# Altium footprint library YAYAT-LIB.PcbLib: 42 footprints (part 1 of 3)
Each footprint in its own frame and in the unit in brackets; x right, y up, seen from the top. Pads: shape width x height; smd on the part's side, far side on the other; paste and mask are expansions set on the pad; w line width, h text height; cw(c..) or ccw(c..) is an arc to the next point about the centre after c.
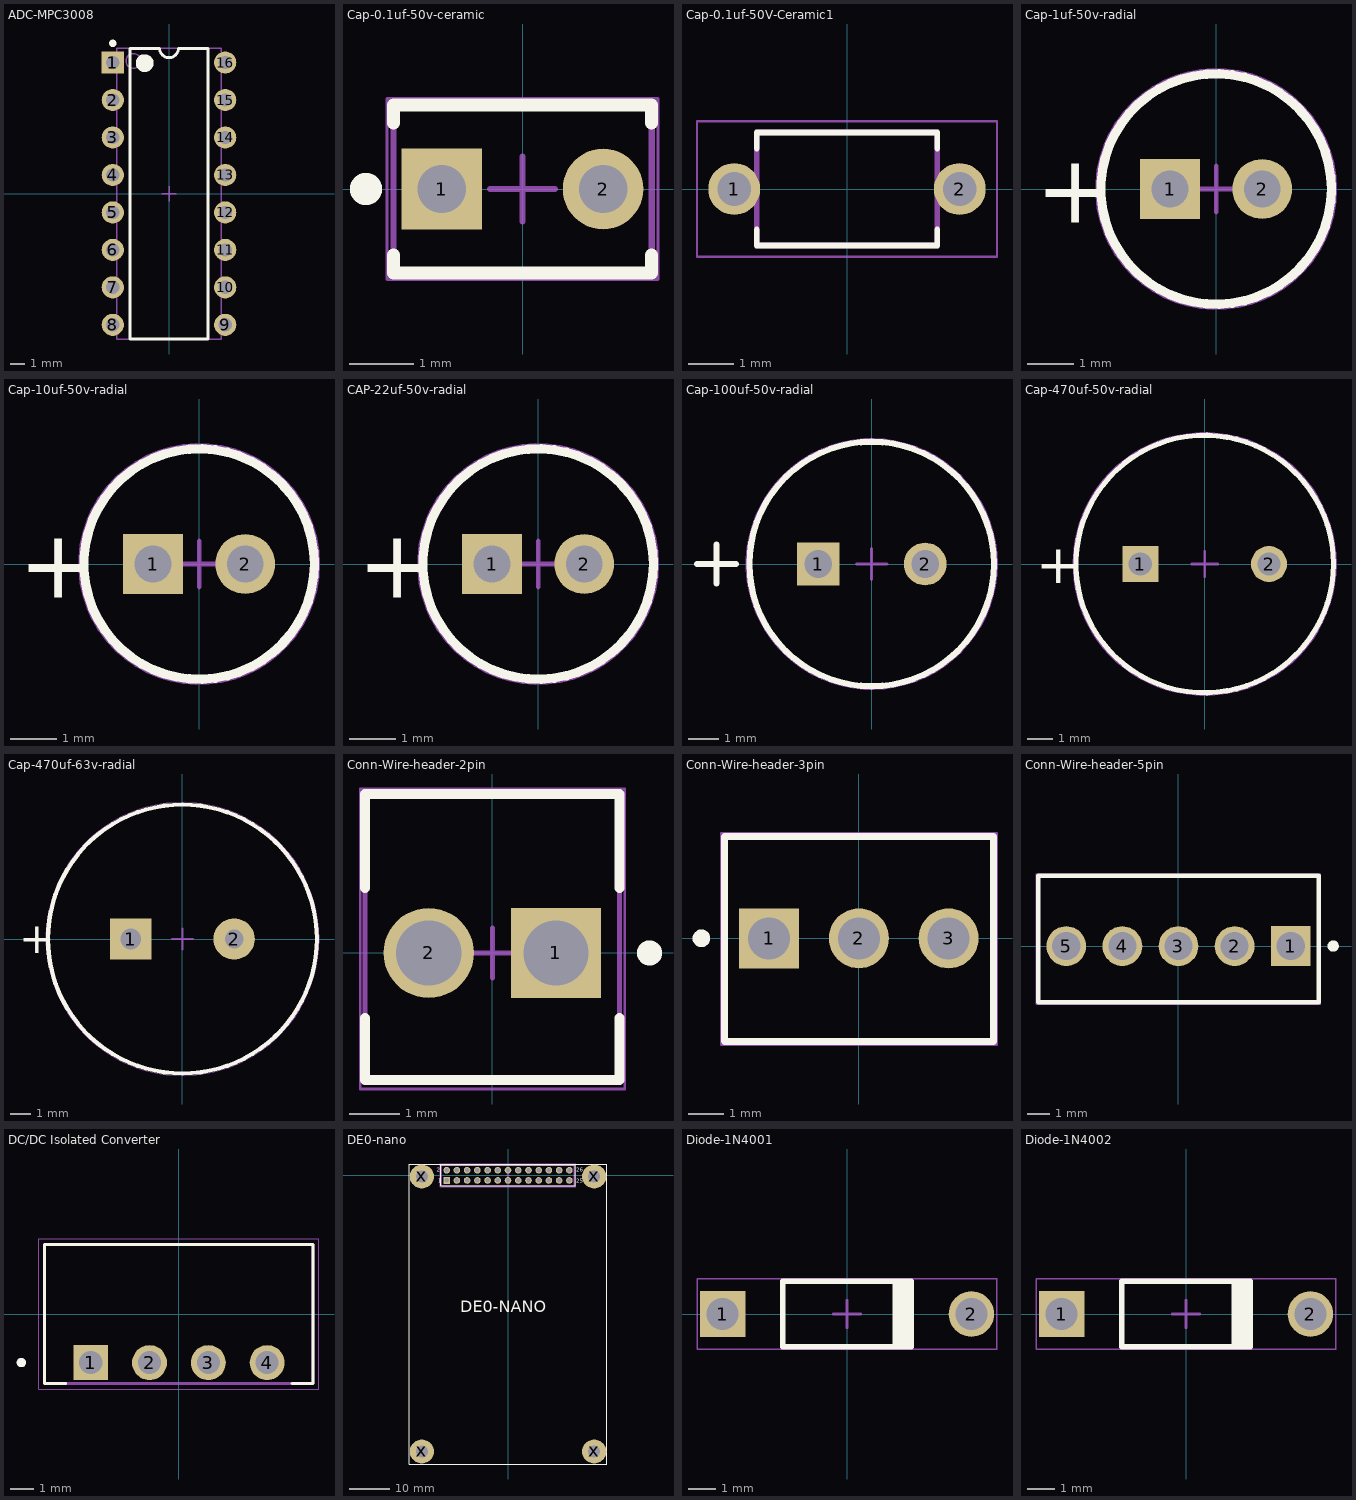
[diagram p0: the footprints below, top view; thin cyan lines are the x and y axes]

## ADC-MPC3008 [mm] "DIP, 16-Leads, Row Spacing 7.62mm, Pitch 2.54mm, Body 19.2x6.6mm"
height 5.34
pads (16):
  rect 1.5x1.5 hole 0.9: 1(-3.81,8.89)
  round 1.5 hole 0.9: 2(-3.81,6.35) 3(-3.81,3.81) 4(-3.81,1.27) 5(-3.81,-1.27) 6(-3.81,-3.81) 7(-3.81,-6.35) 8(-3.81,-8.89) 9(3.81,-8.89) 10(3.81,-6.35) 11(3.81,-3.81) 12(3.81,-1.27) 13(3.81,1.27) 14(3.81,3.81) 15(3.81,6.35) 16(3.81,8.89)
Top Overlay:
  circle w0.25: c-3.81,10.19 r0.125
  circle w0.6: c-1.65,8.85 r0.3
  lines w0.2: -2.65,-9.85 -2.65,9.85 -0.635,9.85 ccw(c0,9.85) 0.635,9.85 2.65,9.85 2.65,-9.85 -2.65,-9.85
Mechanical 13:
  circle w0.1: c-2.4,9 r0.5
  lines w0.1: -3.55,-9.85 -3.55,9.85 3.55,9.85 3.55,-9.85 -3.55,-9.85
Mechanical 15:
  lines w0.1: -0.5,0 0.5,0 ; 0,-0.5 0,0.5
3D body: height 5.34, standoff 0.38, extent -3.549,-9.849 3.549,9.849

## Cap-0.1uf-50v-ceramic [mm] "THD, 2-Leads, Body 4x2.6mm"
height 5.6
pads (2):
  rect 1.25x1.25 hole 0.75: 1(-1.25,0)
  round 1.25 hole 0.75: 2(1.25,0)
Top Overlay:
  circle w0.25: c-2.425,0 r0.125
  lines w0.2: -2,-1.025 -2,-1.3 2,-1.3 2,-1.025 ; -2,1.025 -2,1.3 2,1.3 2,1.025
Mechanical 13:
  lines w0.1: -2,-1.3 2,-1.3 2,1.3 -2,1.3 -2,-1.3
Mechanical 15:
  lines w0.05: -2.1,-1.4 2.1,-1.4 2.1,1.4 -2.1,1.4 -2.1,-1.4
  lines w0.1: -0.5,0 0.5,0 ; 0,-0.5 0,0.5
3D body: height 5.6, standoff 0, extent -2,-1.3 2,1.3

## Cap-0.1uf-50V-Ceramic1 [mm]
pads (2):
  round 1.15 hole 0.75: 1(-2.5,0) 2(2.5,0)
Top Overlay:
  lines w0.127: -2,-0.9 -2,-1.25 2,-1.25 2,-0.9 ; -2,0.9 -2,1.25 2,1.25 2,0.9
Mechanical 13:
  lines w0.127: -2,-1.25 2,-1.25 2,1.25 -2,1.25 -2,-1.25
Mechanical 15:
  lines w0.05: -3.325,-1.5 3.325,-1.5 3.325,1.5 -3.325,1.5 -3.325,-1.5
3D body "RDER71H104K0K1H03B.STEP": height 6, standoff -22.5, extent -2.75,-1.357 2.75,1.143

## Cap-1uf-50v-radial [mm] "THD, 2-Leads, Dia 5mm, Body Length 11mm"
height 12
pads (2):
  rect 1.3x1.3 hole 0.8: 1(-1,0)
  round 1.3 hole 0.8: 2(1,0)
Top Overlay:
  circle w0.2: c0,0 r2.5
  text "+" at -3.908,-0.737 h1.5
Mechanical 13:
  circle w0.1: c0,0 r2.5
Mechanical 15:
  circle w0.05: c0,0 r2.6
  lines w0.1: -0.5,0 0.5,0 ; 0,-0.5 0,0.5
3D body: height 12, standoff 0, extent -2.499,-2.499 2.499,2.499

## Cap-10uf-50v-radial [mm] "THD, 2-Leads, Dia 5mm, Body Length 11mm"
height 12
pads (2):
  rect 1.3x1.3 hole 0.8: 1(-1,0)
  round 1.3 hole 0.8: 2(1,0)
Top Overlay:
  circle w0.2: c0,0 r2.5
  text "+" at -3.908,-0.737 h1.5
Mechanical 13:
  circle w0.1: c0,0 r2.5
Mechanical 15:
  circle w0.05: c0,0 r2.6
  lines w0.1: -0.5,0 0.5,0 ; 0,-0.5 0,0.5
3D body: height 12, standoff 0, extent -2.499,-2.499 2.499,2.499

## CAP-22uf-50v-radial [mm] "THD, 2-Leads, Dia 5mm, Body Length 11mm"
height 12
pads (2):
  rect 1.3x1.3 hole 0.8: 1(-1,0)
  round 1.3 hole 0.8: 2(1,0)
Top Overlay:
  circle w0.2: c0,0 r2.5
  text "+" at -3.908,-0.737 h1.5
Mechanical 13:
  circle w0.1: c0,0 r2.5
Mechanical 15:
  circle w0.05: c0,0 r2.6
  lines w0.1: -0.5,0 0.5,0 ; 0,-0.5 0,0.5
3D body: height 12, standoff 0, extent -2.499,-2.499 2.499,2.499

## Cap-100uf-50v-radial [mm] "THD, 2-Leads, Dia 8mm, Body 11.5mm"
height 12.5
pads (2):
  rect 1.4x1.4 hole 0.9: 1(-1.75,0)
  round 1.4 hole 0.9: 2(1.75,0)
Top Overlay:
  circle w0.2: c0,0 r4
  lines w0.2: -5.715,0 -4.445,0 ; -5.08,-0.635 -5.08,0.635
Mechanical 13:
  circle w0.1: c0,0 r4
Mechanical 15:
  circle w0.05: c0,0 r4.1
  lines w0.1: -0.5,0 0.5,0 ; 0,-0.5 0,0.5
3D body: height 12.5, standoff 0, extent -3.999,-3.999 3.999,3.999

## Cap-470uf-50v-radial [mm] "THD, 2-Leads, Dia 10mm, Body Length 20mm"
height 22
pads (2):
  rect 1.4x1.4 hole 0.9: 1(-2.5,0)
  round 1.4 hole 0.9: 2(2.5,0)
Top Overlay:
  circle w0.2: c0,0 r5
  text "+" at -6.55,-0.75 h1.5
Mechanical 13:
  circle w0.1: c0,0 r5
Mechanical 15:
  circle w0.05: c0,0 r5.1
  lines w0.1: -0.5,0 0.5,0 ; 0,-0.5 0,0.5
3D body: height 22, standoff 0, extent -4.999,-4.999 4.999,4.999

## Cap-470uf-63v-radial [mm] "THD, 2-Leads, Dia 10mm, Body Length 20mm"
height 22
pads (2):
  rect 2x2 hole 1: 1(-2.5,0)
  round 2 hole 0.9: 2(2.5,0)
Top Overlay:
  circle w0.2: c0,0 r6.5
  text "+" at -7.9,-0.7 h1.5
Mechanical 13:
  circle w0.1: c0,0 r6.501
Mechanical 15:
  circle w0.05: c0,0 r6.6
  lines w0.1: -0.5,0 0.5,0 ; 0,-0.5 0,0.5
3D body: height 22, standoff 0, extent -6.556,-6.424 6.524,6.592

## Conn-Wire-header-2pin [mm] "HDR, 2-Leads, Body 5.715x5.08mm, Pitch 2.54mm"
height 10.49
pads (2):
  rect 1.8x1.8 hole 1.3: 1(1.27,0)
  round 1.8 hole 1.3: 2(-1.27,0)
Top Overlay:
  circle w0.25: c3.14,0 r0.125
  lines w0.2: -2.54,-1.3 -2.54,-2.54 2.54,-2.54 2.54,-1.3 ; -2.54,1.3 -2.54,3.175 2.54,3.175 2.54,1.3
Mechanical 13:
  lines w0.1: -2.54,-2.54 -2.54,3.175 2.54,3.175 2.54,-2.54 -2.54,-2.54
Mechanical 15:
  lines w0.05: -2.64,-2.717 2.64,-2.717 2.64,3.275 -2.64,3.275 -2.64,-2.717
  lines w0.1: -0.5,0 0.5,0 ; 0,-0.5 0,0.5
3D body "c-640456-2-aa-3d.stp": height 9.4, standoff -4.19, extent -2.54,-2.667 2.54,3.175

## Conn-Wire-header-3pin [mm] "Header, 3-Leads, Body 7.62x5.8mm, Pitch 2.54mm"
height 11.7
pads (3):
  rect 1.7x1.7 hole 1.19 paste+0: 1(-2.54,0)
  round 1.7 hole 1.19 paste+0: 2(0,0) 3(2.54,0)
Top Overlay:
  circle w0.25: c-4.46,0 r0.125
  lines w0.2: -3.81,-2.92 3.81,-2.92 3.81,2.88 -3.81,2.88 -3.81,-2.92
Mechanical 13:
  lines w0.1: -3.81,-2.92 -3.81,2.88 3.81,2.88 3.81,-2.92 -3.81,-2.92
Mechanical 15:
  lines w0.05: -3.91,-3.02 -3.91,2.98 3.91,2.98 3.91,-3.02 -3.91,-3.02
  lines w0.1: -0.5,0 0.5,0 ; 0,-0.5 0,0.5
3D body "022272031.stp": height 11.71, standoff -3.55, extent -3.81,-2.92 3.81,2.88

## Conn-Wire-header-5pin [mm] "Through Hole, 5-Leads, Body 12.7x5.72mm, Pitch 2.54mm"
height 10.03
pads (5):
  rect 1.8x1.8 hole 1.27 paste+0: 1(5.08,0)
  round 1.8 hole 1.27 paste+0: 2(2.54,0) 3(0,0) 4(-2.54,0) 5(-5.08,0)
Top Overlay:
  circle w0.25: c7.002,0 r0.127
  lines w0.2: -6.35,-2.54 -6.35,3.18 6.35,3.18 6.35,-2.54 -6.35,-2.54
Mechanical 13:
  lines w0.1: -6.35,-2.54 6.35,-2.54 6.35,3.18 -6.35,3.18 -6.35,-2.54
Mechanical 15:
  lines w0.05: -6.45,-2.64 -6.45,3.28 6.45,3.28 6.45,-2.64 -6.45,-2.64
  lines w0.1: -0.5,0 0.5,0 ; 0,-0.5 0,0.5
3D body "c-640456-5-aa-3d.stp": height 10.29, standoff -3.3, extent -6.35,-2.667 6.35,3.175

## DC/DC Isolated Converter [mm]
pads (4):
  rect 1.508x1.508 hole 1: 1(-3.81,-2.1)
  round 1.508 hole 1: 2(-1.27,-2.1) 3(1.27,-2.1) 4(3.81,-2.1)
Top Overlay:
  circle w0.2: c-6.81,-2.1 r0.1
  lines w0.127: -4.89,-3 -5.8,-3 -5.8,3 5.8,3 5.8,-3 4.89,-3
Mechanical 13:
  circle w0.2: c-6.81,-2.1 r0.1
  lines w0.127: -5.8,-3 -5.8,3 5.8,3 5.8,-3 -5.8,-3
Mechanical 15:
  lines w0.05: -6.05,-3.25 -6.05,3.25 6.05,3.25 6.05,-3.25 -6.05,-3.25
3D body "PDSE1-S24-S15-S--3DModel-STEP-194946.STEP": height 9.67, standoff -4.59, extent -5.8,-3.013 5.8,2.987

## DE0-nano [mm] "Pin Header, pitch 2.54 mm, THT, Vertical, dual row, 26p"
height 8.54
pads (30):
  rect 1.65x1.65 hole 1.1: 1(-15.24,-1.27)
  round 1.65 hole 1.1: 2(-15.24,1.27) 3(-12.7,-1.27) 4(-12.7,1.27) 5(-10.16,-1.27) 6(-10.16,1.27) 7(-7.62,-1.27) 8(-7.62,1.27) 9(-5.08,-1.27) 10(-5.08,1.27) 11(-2.54,-1.27) 12(-2.54,1.27) 13(0,-1.27) 14(0,1.27) 15(2.54,-1.27) 16(2.54,1.27) 17(5.08,-1.27) 18(5.08,1.27) 19(7.62,-1.27) 20(7.62,1.27) 21(10.16,-1.27) 22(10.16,1.27) 23(12.7,-1.27) 24(12.7,1.27) 25(15.24,-1.27) 26(15.24,1.27)
  round 6 hole 3: x(-21.4,-68.6) x(-21.4,-0.3) x(21.4,-68.6) x(21.4,-0.3)
Top Overlay:
  lines w0.2: -24.511,2.796 -24.511,-71.704 24.489,-71.704 ; -24.5,2.8 24.5,2.8 24.5,-71.7 ; -16.66,-2.615 16.66,-2.615 16.66,2.615 -16.66,2.615 -16.66,-2.615
  text "DE0-NANO" at -11.9,-35.044 h5
  text "2" at -17.67,0.9 h1.02
  text "1" at -17.37,-1.8 h1.02
  text "25" at 16.97,-1.8 h1.02
  text "26" at 16.97,0.9 h1.02
Mechanical 13:
  lines w0.1: -16.51,-2.54 16.51,-2.54 16.51,2.54 -16.51,2.54 -16.51,-2.54
Mechanical 15:
  lines w0.05: -0.5,0 0.5,0 ; 0,-0.5 0,0.5 ; -16.86,-2.815 -16.86,2.815 16.86,2.815 16.86,-2.815 -16.86,-2.815
3D body "61302621121.stp": height 8.59, standoff -2.95, extent -16.51,-2.54 16.51,2.54

## Diode-1N4001 [mm] "2-Leads, Axial Lead, Body 4.635x2.36mm, Pin Spacing 9mm"
height 2.36
pads (2):
  rect 1.65x1.65 hole 1.15: 1(-4.5,0)
  round 1.65 hole 1.15: 2(4.5,0)
Top Overlay:
  rectangle: 1.651,-1.18 2.317,1.18
  lines w0.2: -2.318,-1.18 -2.318,1.18 2.318,1.18 2.318,-1.18 -2.318,-1.18
Mechanical 13:
  lines w0.1: -2.318,-1.18 2.318,-1.18 2.318,1.18 -2.318,1.18 -2.318,-1.18
Mechanical 15:
  lines w0.05: -5.425,-1.28 -5.425,1.28 5.425,1.28 5.425,-1.28 -5.425,-1.28
  lines w0.1: -0.5,0 0.5,0 ; 0,-0.5 0,0.5
3D body: height 2.35, standoff 0, extent -2.317,-1.18 2.317,1.175
3D body: height 1.18, standoff -2, extent 4.068,-0.431 4.929,0.431
3D body: height 1.61, standoff 0.75, extent 4.069,-0.43 4.929,0.43
3D body: height 1.61, standoff 0.75, extent 2.317,-0.431 4.499,0.431
3D body: height 1.61, standoff 0.75, extent -4.499,-0.431 -2.317,0.431
3D body: height 1.61, standoff 0.75, extent -4.929,-0.43 -4.069,0.43
3D body: height 1.18, standoff -2, extent -4.929,-0.431 -4.068,0.431

## Diode-1N4002 [mm] "2-Leads, Axial Lead, Body 4.635x2.36mm, Pin Spacing 9mm"
height 2.36
pads (2):
  rect 1.65x1.65 hole 1.15: 1(-4.5,0)
  round 1.65 hole 1.15: 2(4.5,0)
Top Overlay:
  rectangle: 1.651,-1.18 2.317,1.18
  lines w0.2: -2.318,-1.18 2.318,-1.18 2.318,1.18 -2.318,1.18 -2.318,-1.18
Mechanical 13:
  lines w0.1: -2.318,-1.18 -2.318,1.18 2.318,1.18 2.318,-1.18 -2.318,-1.18
Mechanical 15:
  lines w0.05: -5.425,-1.28 5.425,-1.28 5.425,1.28 -5.425,1.28 -5.425,-1.28
  lines w0.1: -0.5,0 0.5,0 ; 0,-0.5 0,0.5
3D body: height 1.18, standoff -2, extent -4.929,-0.431 -4.068,0.431
3D body: height 1.61, standoff 0.75, extent -4.929,-0.43 -4.069,0.43
3D body: height 1.61, standoff 0.75, extent -4.499,-0.431 -2.317,0.431
3D body: height 1.61, standoff 0.75, extent 2.317,-0.431 4.499,0.431
3D body: height 1.61, standoff 0.75, extent 4.069,-0.43 4.929,0.43
3D body: height 1.18, standoff -2, extent 4.068,-0.431 4.929,0.431
3D body: height 2.35, standoff 0, extent -2.317,-1.18 2.317,1.175